# EAGLE library part CP2108 (library Silabs_Exo)
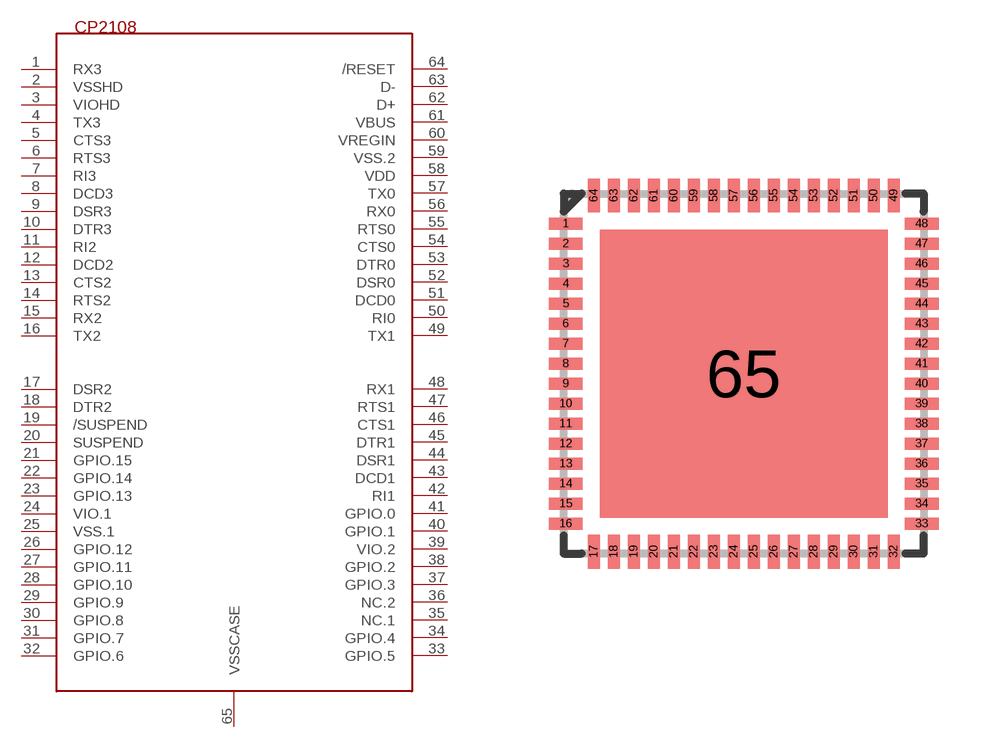
[diagram p1: symbol with the pads of QFN64; footprint QFN64]

Designator prefix -

## CP2108  [QFN64]
1  RX3
2  VSSHD
3  VIOHD
4  TX3
5  CTS3
6  RTS3
7  RI3
8  DCD3
9  DSR3
10  DTR3
11  RI2
12  DCD2
13  CTS2
14  RTS2
15  RX2
16  TX2
17  DSR2
18  DTR2
19  /SUSPEND
20  SUSPEND
21  GPIO.15
22  GPIO.14
23  GPIO.13
24  VIO.1
25  VSS.1
26  GPIO.12
27  GPIO.11
28  GPIO.10
29  GPIO.9
30  GPIO.8
31  GPIO.7
32  GPIO.6
33  GPIO.5
34  GPIO.4
35  NC.1
36  NC.2
37  GPIO.3
38  GPIO.2
39  VIO.2
40  GPIO.1
41  GPIO.0
42  RI1
43  DCD1
44  DSR1
45  DTR1
46  CTS1
47  RTS1
48  RX1
49  TX1
50  RI0
51  DCD0
52  DSR0
53  DTR0
54  CTS0
55  RTS0
56  RX0
57  TX0
58  VDD
59  VSS.2
60  VREGIN
61  VBUS
62  D+
63  D-
64  /RESET
65  VSSCASE

## Footprint QFN64 (pad centres in mm)
smd 0.85 x 0.3: 1 -4.45,3.75; 2 -4.45,3.25; 3 -4.45,2.75; 4 -4.45,2.25; 5 -4.45,1.75; 6 -4.45,1.25; 7 -4.45,0.75; 8 -4.45,0.25; 9 -4.45,-0.25; 10 -4.45,-0.75; 11 -4.45,-1.25; 12 -4.45,-1.75; 13 -4.45,-2.25; 14 -4.45,-2.75; 15 -4.45,-3.25; 16 -4.45,-3.75; 33 4.45,-3.75; 34 4.45,-3.25; 35 4.45,-2.75; 36 4.45,-2.25; 37 4.45,-1.75; 38 4.45,-1.25; 39 4.45,-0.75; 40 4.45,-0.25; 41 4.45,0.25; 42 4.45,0.75; 43 4.45,1.25; 44 4.45,1.75; 45 4.45,2.25; 46 4.45,2.75; 47 4.45,3.25; 48 4.45,3.75
smd 0.3 x 0.85: 17 -3.75,-4.45; 18 -3.25,-4.45; 19 -2.75,-4.45; 20 -2.25,-4.45; 21 -1.75,-4.45; 22 -1.25,-4.45; 23 -0.75,-4.45; 24 -0.25,-4.45; 25 0.25,-4.45; 26 0.75,-4.45; 27 1.25,-4.45; 28 1.75,-4.45; 29 2.25,-4.45; 30 2.75,-4.45; 31 3.25,-4.45; 32 3.75,-4.45; 49 3.75,4.45; 50 3.25,4.45; 51 2.75,4.45; 52 2.25,4.45; 53 1.75,4.45; 54 1.25,4.45; 55 0.75,4.45; 56 0.25,4.45; 57 -0.25,4.45; 58 -0.75,4.45; 59 -1.25,4.45; 60 -1.75,4.45; 61 -2.25,4.45; 62 -2.75,4.45; 63 -3.25,4.45; 64 -3.75,4.45
smd 7.2 x 7.2: 65 0,0